# Altium schematic symbol library Schematic Diagrams.SchLib: 350 symbols (part 9 of 9)
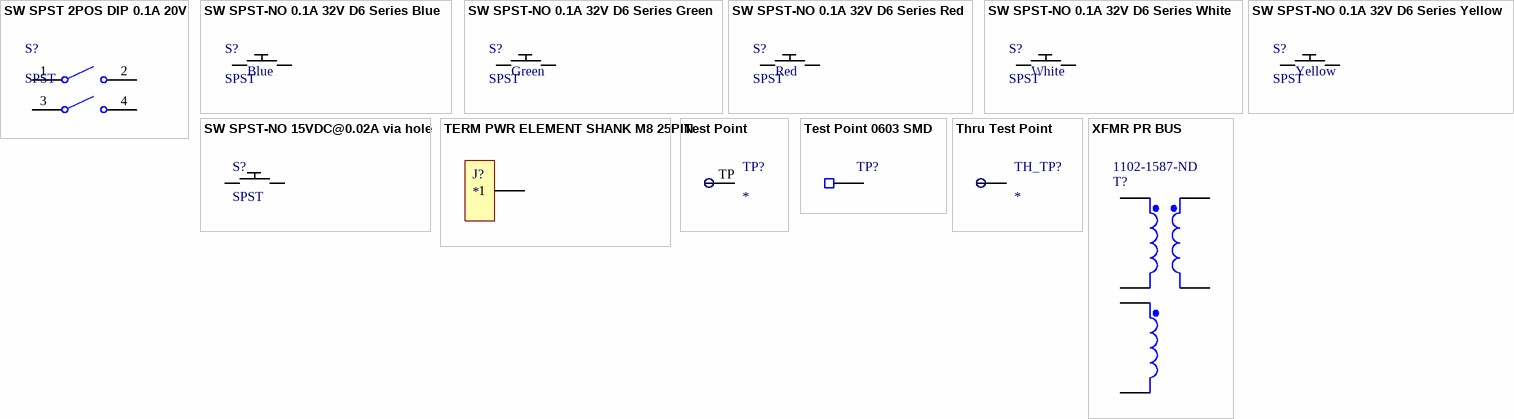
[diagram p19: symbols SW SPST 2POS DIP 0.1A 20V to XFMR PR BUS]

## SW SPST-NO 0.1A 32V D6 Series Green
designator S?, comment SPST
Pushbutton Switch SPST-NO Keyswitch Through Hole D6 Series Green; Manufacturer: C&K; Manufacturer Part Number: D6R50 F1 LFS; Switch Function: Off-Mom; Current Rating: 100mA (DC); Voltage Rating - DC: 32V; Actuator Type: Round, Button; Electrical Life: 250,000 Cycles; Supplier 1: Digi-Key; RoHS: RoHS Compliant; Category: Switches; Stock 1: 3742; Pricing 1: 1=1.73, 10=1.607, 25=1.5308, 50=1.454, 100=1.4158, 250=1.37756, 500=1.30102, 1000=1.22448, 5000=1.03316 (CAD); Packaging: Bulk; Part Status: Active; Type: Keyswitch; Circuit: SPST-NO; Voltage Rating - AC: -; Color - Actuator/Cap: Green; Illumination Type, Color: -; Illumination Voltage (Nominal): -; Mounting Type: Through Hole; Termination Style: PC Pin; Ingress Protection: -; Features: Tactile Feedback; Panel Cutout Dimensions: -; Operating Temperature: -20°C ~ 85°C; Mechanical Life: -; ComponentLink1URL: http://www.ckswitches.com/media/1341/d6.pdf; ComponentLink1Description: http://www.ckswitches.com/media/1341/d6.pdf; Supplier Part Number 1: 401-1976-ND
footprint SW SPST D6 SERIES GREEN
pins: 1, 2

## SW SPST-NO 0.1A 32V D6 Series Red
designator S?, comment SPST
Pushbutton Switch SPST-NO Keyswitch Through Hole D6 Series Red; Manufacturer: C&K; Manufacturer Part Number: D6R40 F1 LFS; Switch Function: Off-Mom; Current Rating: 100mA (DC); Voltage Rating - DC: 32V; Actuator Type: Round, Button; Electrical Life: 250,000 Cycles; Supplier 1: Digi-Key; RoHS: RoHS Compliant; Category: Switches; Stock 1: 4872; Pricing 1: 1=1.73, 10=1.607, 25=1.5308, 50=1.454, 100=1.4158, 250=1.37756, 500=1.30102, 1000=1.22448, 5000=1.03316 (CAD); Packaging: Bulk; Part Status: Active; Type: Keyswitch; Circuit: SPST-NO; Voltage Rating - AC: -; Color - Actuator/Cap: Red; Illumination Type, Color: -; Illumination Voltage (Nominal): -; Mounting Type: Through Hole; Termination Style: PC Pin; Ingress Protection: -; Features: Tactile Feedback; Panel Cutout Dimensions: -; Operating Temperature: -20°C ~ 85°C; Mechanical Life: -; ComponentLink1URL: http://www.ckswitches.com/media/1341/d6.pdf; ComponentLink1Description: http://www.ckswitches.com/media/1341/d6.pdf; Supplier Part Number 1: 401-1975-ND
footprint SW SPST D6 SERIES RED
pins: 1, 2

## SW SPST-NO 0.1A 32V D6 Series White
designator S?, comment SPST
Pushbutton Switch SPST-NO Keyswitch Through Hole D6 Series White; Manufacturer: C&K; Manufacturer Part Number: D6R00 F2 LFS; Switch Function: Off-Mom; Current Rating: 100mA (DC); Voltage Rating - DC: 32V; Actuator Type: Round, Button; Electrical Life: 250,000 Cycles; Supplier 1: Digi-Key; RoHS: RoHS Compliant; Category: Switches; Stock 1: 6244; Pricing 1: 1=1.64, 10=1.532, 25=1.4584, 50=1.3856, 100=1.3492, 250=1.31272, 500=1.2398, 1000=1.16686, 5000=0.98454 (CAD); Packaging: Bulk; Part Status: Active; Type: Keyswitch; Circuit: SPST-NO; Voltage Rating - AC: -; Color - Actuator/Cap: White; Illumination Type, Color: -; Illumination Voltage (Nominal): -; Mounting Type: Through Hole; Termination Style: PC Pin; Ingress Protection: -; Features: Tactile Feedback; Panel Cutout Dimensions: -; Operating Temperature: -20°C ~ 85°C; Mechanical Life: -; ComponentLink1URL: http://www.ckswitches.com/media/1341/d6.pdf; ComponentLink1Description: http://www.ckswitches.com/media/1341/d6.pdf; Supplier Part Number 1: 401-1989-ND; Supplier 2: Digi-Key; Stock 2: 3742; Pricing 2: 1=1.73, 10=1.607, 25=1.5308, 50=1.454, 100=1.4158, 250=1.37756, 500=1.30102, 1000=1.22448, 5000=1.03316 (CAD); Supplier Part Number 2: 401-1976-ND
footprint SW SPST D6 SERIES WHITE
pins: 1, 2

## SW SPST-NO 0.1A 32V D6 Series Yellow
designator S?, comment SPST
Pushbutton Switch SPST-NO Keyswitch Through Hole D6 Series Yellow; Manufacturer: C&K; Manufacturer Part Number: D6R30 F1 LFS; Switch Function: Off-Mom; Current Rating: 100mA (DC); Voltage Rating - DC: 32V; Actuator Type: Round, Button; Electrical Life: 250,000 Cycles; Supplier 1: Digi-Key; RoHS: RoHS Compliant; Category: Switches; Stock 1: 2814; Pricing 1: 1=1.73, 10=1.607, 25=1.5308, 50=1.454, 100=1.4158, 250=1.37756, 500=1.30102, 1000=1.22448, 5000=1.03316 (CAD); Packaging: Bulk; Part Status: Active; Type: Keyswitch; Circuit: SPST-NO; Voltage Rating - AC: -; Color - Actuator/Cap: Yellow; Illumination Type, Color: -; Illumination Voltage (Nominal): -; Mounting Type: Through Hole; Termination Style: PC Pin; Ingress Protection: -; Features: Tactile Feedback; Panel Cutout Dimensions: -; Operating Temperature: -20°C ~ 85°C; Mechanical Life: -; ComponentLink1URL: http://www.ckswitches.com/media/1341/d6.pdf; ComponentLink1Description: http://www.ckswitches.com/media/1341/d6.pdf; Supplier Part Number 1: 401-1974-ND
footprint SW SPST D6 SERIES YELLOW
pins: 1, 2

## SW SPST-NO 15VDC@0.02A via hole
designator S?, comment SPST
Switch Tactile SPST 6x6x9.5mm 15VDC@0.02A Through Hole; Manufacturer: Panasonic Electronic Components; Manufacturer Part Number: EVQ-PAC09K; Circuit: SPST-NO; Switch Function: Off-Mom; Contact Rating @ Voltage: 0.02A @ 15VDC; Actuator Type: Standard; Actuator Height off PCB, Vertical: 9.50mm; Actuator Orientation: Top Actuated; Outline: 6.00mm x 6.00mm; Illumination: Non-Illuminated; Operating Force: 100gf; Switch Travel: 0.25mm; Mechanical Life: 100,000 Cycles; Supplier 1: Digi-Key; Supplier Part Number 1: P8012S-ND; RoHS: RoHS Compliant; Category: Switches; Stock 1: 30036; Pricing 1: 1=0.31, 10=0.303, 25=0.2932, 50=0.2828, 100=0.2671, 250=0.2514, 500=0.24094, 1000=0.18332, 5000=0.15189 (CAD); Packaging: Bulk; Part Status: Active; Mounting Type: Through Hole; Actuator Length, Right Angle: -; Termination Style: PC Pin; Illumination Type, Color: -; Illumination Voltage (Nominal): -; Ingress Protection: -; Features: -; Actuator Material: -; Operating Temperature: -20°C ~ 70°C; ComponentLink1URL: http://industrial.panasonic.com/cdbs/www-data/pdf/ATK0000/ATK0000CE10.pdf; ComponentLink1Description: http://industrial.panasonic.com/cdbs/www-data/pdf/ATK0000/ATK0000CE10.pdf
footprint SW SPST-NO 6x6mm Via Hole
pins: 1, 2

## TERM PWR ELEMENT SHANK M8 25PIN
designator J?
25 Pin Shank Terminal M8 Through Hole; Manufacturer Part Number 1: 7460719; Manufacturer 1: Wurth Electronics Inc.; Current Rating (Amps): 250A; Supplier 1: Digi-Key; Supplier Part Number 1: 732-3219-ND; Terminal Type: Shank Terminal; Screw Size: M8; Termination: Press-Fit; Number of Pins: 25
footprint TERM PWR ELEMENT SHANK M8 25PIN (25 Pin Shank Terminal M8 Through Hole)
pins: 1

## Test Point
designator TP?  (no BOM)
footprint Test Point
pins: TP 1

## Test Point 0603 SMD
designator TP?  (value not drawn)
Manufacturer 1: TE Connectivity; Manufacturer Part Number 1: 1625854-3; Description 1: Thick Film Resistors - SMD 2000; Resistance: 0mR; Supplier 1: Digi-Key; Supplier Part Number 1: A106145CT-ND; Stock 1: 212628; Pricing 1: 1=0.22, 10=0.211, 25=0.18, 50=0.1574, 100=0.1462, 250=0.12932, 500=0.12368, 1000=0.1012 (USD); Mount: Surface Mount; Case/Package: 0603; Colour: Natural; Case Code (Imperial): 0603; Case Code (Metric): 1608; Min Operating Temperature: -55°C; Max Operating Temperature: 125°C; Packaging: Tape and Reel; Termination: SMD/SMT; Package Quantity: 2000; Military Standard: Not; Length: 1.6mm; Height: 1.15mm; Width: 0.8mm; Depth: 0.8mm; Radiation Hardening: No; ComponentLink1URL: https://datasheet.ciiva.com/30100/1773266-a-30100967.pdf; ComponentLink1Description: https://datasheet.ciiva.com/30100/1773266-a-30100967.pdf; ComponentLink2URL: https://datasheet.ciiva.com/8914/eng-ds-1773266-a-8914634.pdf; ComponentLink2Description: https://datasheet.ciiva.com/8914/eng-ds-1773266-a-8914634.pdf; ComponentLink3URL: https://datasheet.ciiva.com/6439/eng-ds-1773266-a-6439163.pdf; ComponentLink3Description: https://datasheet.ciiva.com/6439/eng-ds-1773266-a-6439163.pdf; ComponentLink4URL: https://datasheet.ciiva.com/6439/eng-ds-1773266-a-6439164.pdf; ComponentLink4Description: https://datasheet.ciiva.com/6439/eng-ds-1773266-a-6439164.pdf; ComponentLink5URL: https://datasheet.ciiva.com/6439/eng-ds-1773266-a-6439165.pdf; ComponentLink5Description: https://datasheet.ciiva.com/6439/eng-ds-1773266-a-6439165.pdf
footprint TEST POINT 0603 SMD
pins: 1

## Thru Test Point
designator TH_TP?
footprint Thru Test Point
pins: TH_TP 1

## XFMR PR BUS
designator T?, comment Supplier Part Number 1: 1102-1587-ND  (hidden comment: PR BUS)
Transformer for PR bus on Vicor DC-DC; Manufacturer: Vicor Corporation; Manufacturer Part Number: 29768; For Use With/Related Products: VICOR Maxi, Mini, Micro-Sized Modules; Supplier 1: Digi-Key; RoHS: RoHS Compliant; Category: Power Supplies - Board Mount; Stock 1: 2198; Pricing 1: 1=15.2, 10=13.82, 25=12.7844, 100=11.7476, 250=10.711, 500=10.01996, 1000=9.19073 (CAD); Part Status: Active; Accessory Type: Transformer; ComponentLink1URL: http://asp.vicorpower.com/CADPDF/899N5I.PDF; ComponentLink1Description: http://asp.vicorpower.com/CADPDF/899N5I.PDF
footprint XFMR PR BUS
pins: 1 Pri+, 2 Pri-, 3 Sec2+, 4 Sec2-, 5 Sec1+, 6 Sec1-